# Altium footprint library ECS-TXO53-S3-33-250-BN-TR.PcbLib: 1 footprints
Each footprint in its own frame and in the unit in brackets; x right, y up, seen from the top. Pads: shape width x height; smd on the part's side, far side on the other; paste and mask are expansions set on the pad; w line width, h text height; cw(c..) or ccw(c..) is an arc to the next point about the centre after c.
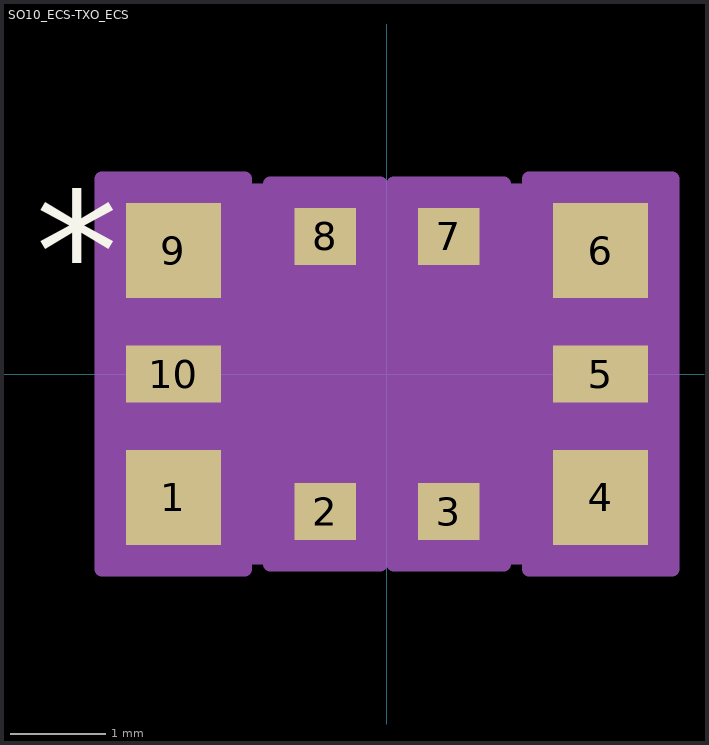
[diagram p0: the footprint, top view; thin cyan lines are the x and y axes]

## SO10_ECS-TXO_ECS [mm]
pads (10):
  rect 1x1 smd paste+0 mask+0: 1(-2.25,-1.3) 4(2.25,-1.3) 6(2.25,1.3) 9(-2.25,1.3)
  rect 0.65x0.6 smd paste+0 mask+0: 2(-0.65,-1.45) 3(0.65,-1.45) 7(0.65,1.45) 8(-0.65,1.45)
  rect 1x0.6 smd paste+0 mask+0: 5(2.25,0) 10(-2.25,0)
Top Overlay:
  text "*" at -3.698,0.665 h1.27
Mechanical 13:
  lines w0.025: -2.578,0.406 -1.308,1.676 ; -2.578,-1.676 2.578,-1.676 2.578,1.676 -2.578,1.676 -2.578,-1.676
  text "*" at -1.437,0.665 h1.27
Mechanical 15:
  region: -1.229,1.93 -1.496,1.93 -1.496,2.054 -3.004,2.054 -3.004,-2.054 -1.496,-2.054 -1.496,-1.93 -1.229,-1.93 -1.229,-2.004 -0.071,-2.004 -0.071,-1.93 0.071,-1.93 0.071,-2.004 1.229,-2.004 1.229,-1.93 1.496,-1.93 1.496,-2.054 3.004,-2.054 3.004,2.054 1.496,2.054 1.496,1.93 1.229,1.93 1.229,2.004 0.071,2.004 0.071,1.93 -0.071,1.93 -0.071,2.004 -1.229,2.004
  lines w0.152: -3.004,-2.054 -3.004,2.054 -1.496,2.054 -1.496,1.93 -1.229,1.93 -1.229,2.004 -0.071,2.004 -0.071,1.93 0.071,1.93 0.071,2.004 1.229,2.004 1.229,1.93 1.496,1.93 1.496,2.054 3.004,2.054 3.004,-2.054 1.496,-2.054 1.496,-1.93 1.229,-1.93 1.229,-2.004 0.071,-2.004 0.071,-1.93 -0.071,-1.93 -0.071,-2.004 -1.229,-2.004 -1.229,-1.93 -1.496,-1.93 -1.496,-2.054 -3.004,-2.054